# Altium footprint library TO254P1030X480X2260-3.PcbLib: 1 footprints
Each footprint in its own frame and in the unit in brackets; x right, y up, seen from the top. Pads: shape width x height; smd on the part's side, far side on the other; paste and mask are expansions set on the pad; w line width, h text height; cw(c..) or ccw(c..) is an arc to the next point about the centre after c.
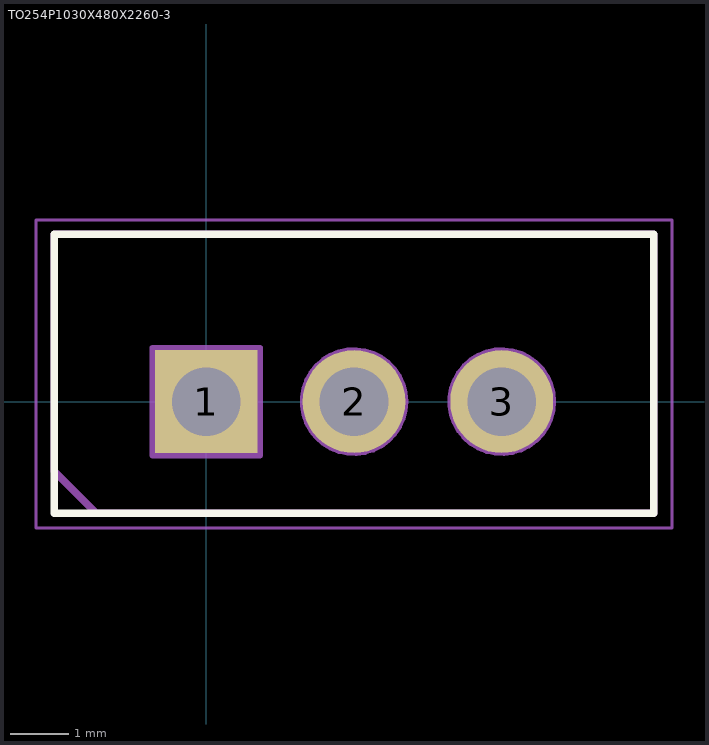
[diagram p0: the footprint, top view; thin cyan lines are the x and y axes]

## TO254P1030X480X2260-3 [mm]
pads (3):
  rect 1.77x1.77 hole 1.18: 1(0,0)
  round 1.77 hole 1.18: 2(2.54,0) 3(5.08,0)
Top Overlay:
  lines w0.127: -2.61,-1.92 7.69,-1.92 7.69,2.88 -2.61,2.88 -2.61,-1.92
Mechanical 3:
  lines w0.127: -2.61,-1.2 -1.89,-1.92 7.69,-1.92 7.69,2.88 -2.61,2.88 -2.61,-1.2
Mechanical 5:
  circle w0.1: c5.08,0 r0.885
  circle w0.1: c2.54,0 r0.885
  lines w0.1: -0.925,-0.925 -0.925,0.925 0.925,0.925 0.925,-0.925 -0.925,-0.925
Mechanical 7:
  lines w0.05: -2.93,-2.175 8.01,-2.175 8.01,3.125 -2.93,3.125 -2.93,-2.175
Mechanical 9:
  text "'.Designator'" at -3.05,1.525 h1
3D body: height 2.54, standoff -3.05, extent -2.93,-2.175 8.01,3.125
3D body "TO220FP-3_ROM.step": height 22.61, standoff -7.34, extent -2.606,-1.901 7.706,2.9